# Altium footprint library AMPHENOL_ICD15S13E6GV00LF.PcbLib: 1 footprints
Each footprint in its own frame and in the unit in brackets; x right, y up, seen from the top. Pads: shape width x height; smd on the part's side, far side on the other; paste and mask are expansions set on the pad; w line width, h text height; cw(c..) or ccw(c..) is an arc to the next point about the centre after c.
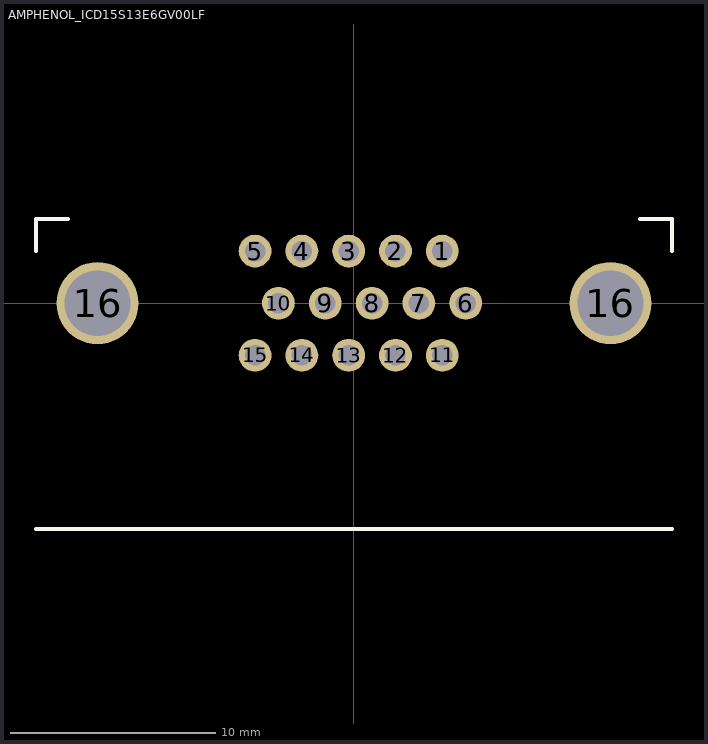
[diagram p0: the footprint, top view; thin cyan lines are the x and y axes]

## AMPHENOL_ICD15S13E6GV00LF [mm] "15-pin VGA Connector"
pads (17):
  round 1.6 hole 1: 1(4.3,2.54) 2(2.02,2.54) 3(-0.26,2.54) 4(-2.54,2.54) 5(-4.82,2.54) 6(5.44,0) 7(3.16,0) 8(0.88,0) 9(-1.4,0) 10(-3.68,0) 11(4.3,-2.54) 12(2.02,-2.54) 13(-0.26,-2.54) 14(-2.54,-2.54) 15(-4.82,-2.54)
  round 4 hole 3.2: 16(-12.495,0) 16(12.495,0)
Top Overlay:
  lines w0.2: -15.5,-11 15.5,-11 ; -15.5,2.54 -15.5,4.1 -13.94,4.1 ; 13.94,4.1 15.5,4.1 15.5,2.54
3D body "Sicd15s13e6gv00lf.stp": height 12.55, standoff -3.2, extent -15.5,-17.55 15.5,4.08